# Altium schematic symbol library 集成IC.SchLib: 2 symbols
Pins are listed as number, name and electrical type; pins without a type are passive.

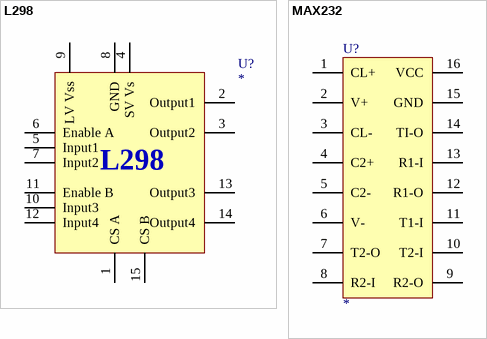
[diagram p0: symbols L298 to MAX232]

## L298
designator U?
DUAL FULL-BRIDGE DRIVER
footprint Multiwatt15 V
pins: 1 CS A, 2 Output1, 3 Output2, 4 SV Vs, 5 Input1, 6 Enable A, 7 Input2, 8 GND, 9 LV Vss, 10 Input3, 11 Enable B, 12 Input4, 13 Output3, 14 Output4, 15 CS B

## MAX232
designator U?
footprint DIP-16
pins: 1 CL+, 2 V+, 3 CL-, 4 C2+, 5 C2-, 6 V-, 7 T2-O, 8 R2-I, 9 R2-O, 10 T2-I, 11 T1-I, 12 R1-O, 13 R1-I, 14 TI-O, 15 GND, 16 VCC